# EAGLE library part ESP8266-12E (library esp12e)
ESP8266-12E Library for Eagle CAD The author not responsible for any damages or errors!. Created by Suhail jr.lt;/author>
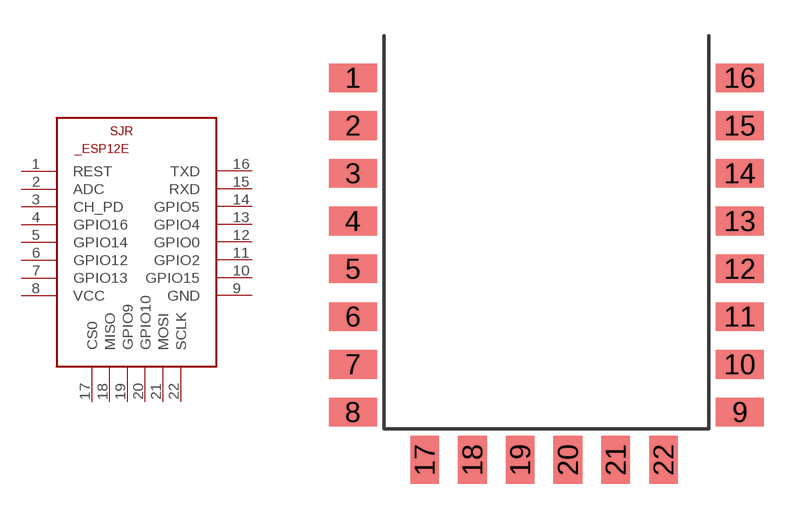
[diagram p0: symbol with the pads of ESP8266-ESP12E; footprint ESP8266-ESP12E]

Designator prefix SJR

## ESP8266-12EESP12E  [ESP8266-ESP12E]
1  REST
2  ADC
3  CH_PD
4  GPIO16
5  GPIO14
6  GPIO12
7  GPIO13
8  VCC
9  GND
10  GPIO15
11  GPIO2
12  GPIO0
13  GPIO4
14  GPIO5
15  RXD  in
16  TXD
17  CS0
18  MISO
19  GPIO9
20  GPIO10
21  MOSI
22  SCLK

## Footprint ESP8266-ESP12E (pad centres in mm)
ESP8266-12E Library for Eagle CAD The author not responsible for any damages or errors!. Created by Suhail jr.lt;/author>
smd 2 x 1.2: 1 0,-0.51; 2 0,-2.51; 3 0,-4.51; 4 0,-6.51; 5 0,-8.51; 6 0,-10.51; 7 0,-12.51; 8 0,-14.51; 9 16.2,-14.51; 10 16.2,-12.51; 11 16.2,-10.51; 12 16.2,-8.51; 13 16.2,-6.51; 14 16.2,-4.51; 15 16.2,-2.51; 16 16.2,-0.51
smd 1.2 x 2: 17 3,-16.51; 18 5,-16.51; 19 7,-16.51; 20 9,-16.51; 21 11,-16.51; 22 13,-16.51